# EAGLE library part CP2108 (library Semiconductors > Integrated Circuits - ICs > Interface ICs > USB Interface IC)
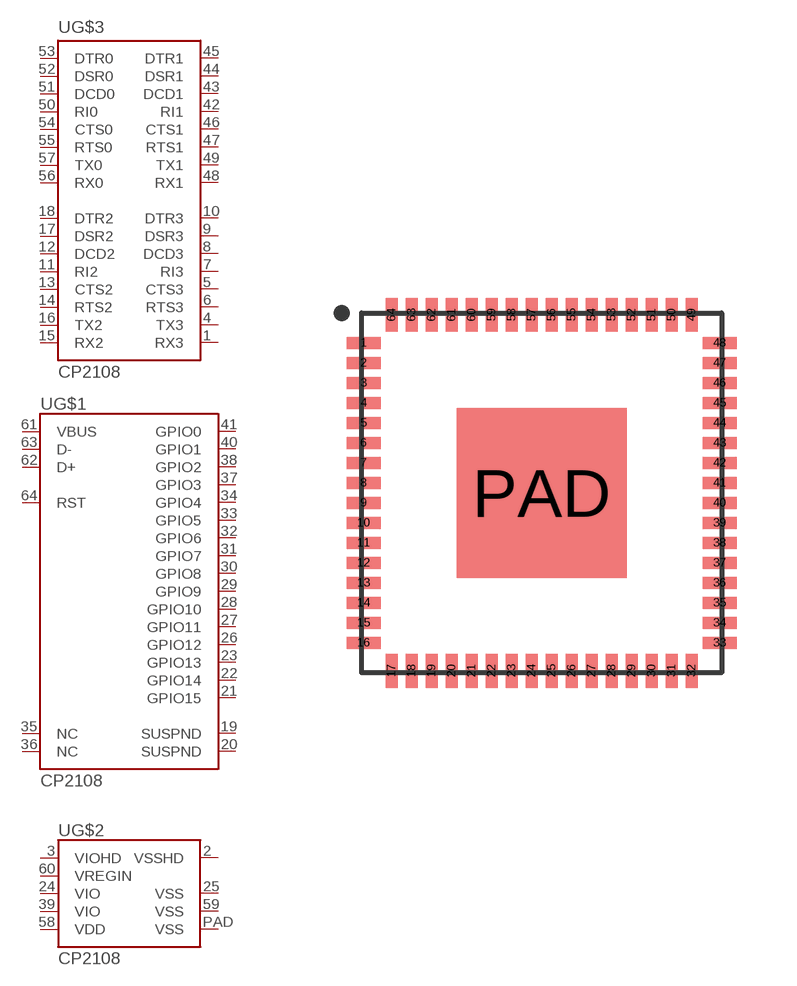
[diagram p1: symbol with the pads of QFN64; footprint QFN64]

Designator prefix U; gates G$1=CP2108-GPIO G$2=CP2108-POW G$3=CP2108-UART

## CP2108  [QFN64]
1  G$3:RX3
2  G$2:VSSHD
3  G$2:VIOHD
4  G$3:TX3
5  G$3:CTS3
6  G$3:RTS3
7  G$3:RI3
8  G$3:DCD3
9  G$3:DSR3
10  G$3:DTR3
11  G$3:RI2
12  G$3:DCD2
13  G$3:CTS2
14  G$3:RTS2
15  G$3:RX2
16  G$3:TX2
17  G$3:DSR2
18  G$3:DTR2
19  G$1:SUSPND
20  G$1:SUSPND
21  G$1:GPIO15
22  G$1:GPIO14
23  G$1:GPIO13
24  G$2:VIO
25  G$2:VSS
26  G$1:GPIO12
27  G$1:GPIO11
28  G$1:GPIO10
29  G$1:GPIO9
30  G$1:GPIO8
31  G$1:GPIO7
32  G$1:GPIO6
33  G$1:GPIO5
34  G$1:GPIO4
35  G$1:NC
36  G$1:NC
37  G$1:GPIO3
38  G$1:GPIO2
39  G$2:VIO
40  G$1:GPIO1
41  G$1:GPIO0
42  G$3:RI1
43  G$3:DCD1
44  G$3:DSR1
45  G$3:DTR1
46  G$3:CTS1
47  G$3:RTS1
48  G$3:RX1
49  G$3:TX1
50  G$3:RI0
51  G$3:DCD0
52  G$3:DSR0
53  G$3:DTR0
54  G$3:CTS0
55  G$3:RTS0
56  G$3:RX0
57  G$3:TX0
58  G$2:VDD
59  G$2:VSS
60  G$2:VREGIN
61  G$1:VBUS
62  G$1:D+
63  G$1:D-
64  G$1:RST
PAD  G$2:VSS

## Footprint QFN64 (pad centres in mm)
smd 0.85 x 0.3: 1 -4.45,3.75; 2 -4.45,3.25; 3 -4.45,2.75; 4 -4.45,2.25; 5 -4.45,1.75; 6 -4.45,1.25; 7 -4.45,0.75; 8 -4.45,0.25; 9 -4.45,-0.25; 10 -4.45,-0.75; 11 -4.45,-1.25; 12 -4.45,-1.75; 13 -4.45,-2.25; 14 -4.45,-2.75; 15 -4.45,-3.25; 16 -4.45,-3.75; 33 4.45,-3.75; 34 4.45,-3.25; 35 4.45,-2.75; 36 4.45,-2.25; 37 4.45,-1.75; 38 4.45,-1.25; 39 4.45,-0.75; 40 4.45,-0.25; 41 4.45,0.25; 42 4.45,0.75; 43 4.45,1.25; 44 4.45,1.75; 45 4.45,2.25; 46 4.45,2.75; 47 4.45,3.25; 48 4.45,3.75
smd 0.3 x 0.85: 17 -3.75,-4.45; 18 -3.25,-4.45; 19 -2.75,-4.45; 20 -2.25,-4.45; 21 -1.75,-4.45; 22 -1.25,-4.45; 23 -0.75,-4.45; 24 -0.25,-4.45; 25 0.25,-4.45; 26 0.75,-4.45; 27 1.25,-4.45; 28 1.75,-4.45; 29 2.25,-4.45; 30 2.75,-4.45; 31 3.25,-4.45; 32 3.75,-4.45; 49 3.75,4.45; 50 3.25,4.45; 51 2.75,4.45; 52 2.25,4.45; 53 1.75,4.45; 54 1.25,4.45; 55 0.75,4.45; 56 0.25,4.45; 57 -0.25,4.45; 58 -0.75,4.45; 59 -1.25,4.45; 60 -1.75,4.45; 61 -2.25,4.45; 62 -2.75,4.45; 63 -3.25,4.45; 64 -3.75,4.45
smd 4.25 x 4.25: PAD 0,0